# EAGLE library part 4DIGIT_7SEG (library Displays)
Four seven segment led display. Datasheet <http://www.opto-electronics.com.cn/product/LED_seven_segment_display/four_digit_seven_segment_display/BL-Q56A-42.pdf>
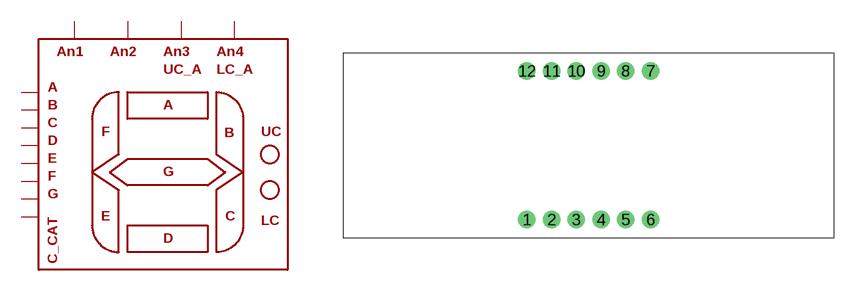
[diagram p4: symbol with the pads of 4DIG_7SEG_5.3X19; footprint 4DIG_7SEG_5.3X19]

Designator prefix DISPLAY

## 4DIGIT_7SEG  [4DIG_7SEG_5.3X19]
1  1
2  2
3  3
4  4
5  5
6  6
7  7
8  8
9  9
10  10
11  11
12  12

## Footprint 4DIG_7SEG_5.3X19 (pad centres in mm)
drill 0.9 pad 1.778: 1 -6.35,-7.62; 2 -3.81,-7.62; 3 -1.27,-7.62; 4 1.27,-7.62; 5 3.81,-7.62; 6 6.35,-7.62; 7 6.35,7.62; 8 3.81,7.62; 9 1.27,7.62; 10 -1.27,7.62; 11 -3.81,7.62; 12 -6.35,7.62